# EAGLE library part CON-RJ45 (library FansElectronics-Wiznet)
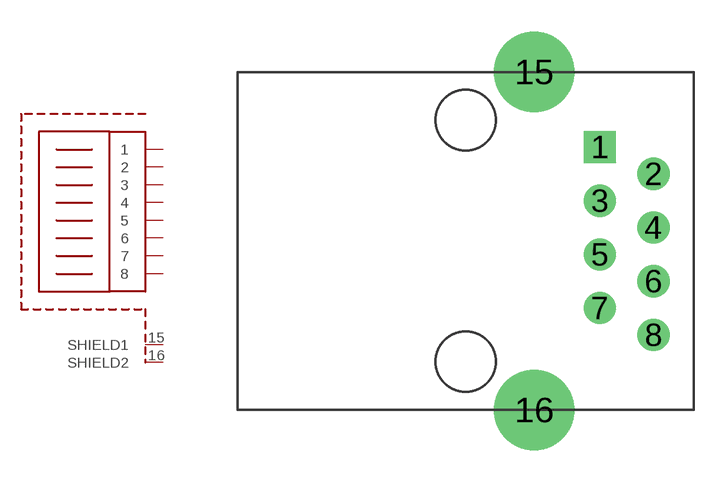
[diagram p4: symbol with the pads of CON-RJ45; footprint CON-RJ45]

Designator prefix X

## CON-RJ45  [CON-RJ45]
1  1  pas
2  2  pas
3  3  pas
4  4  pas
5  5  pas
6  6  pas
7  7  pas
8  8  pas
15  SHIELD1
16  SHIELD2

## Footprint CON-RJ45 (pad centres in mm)
drill 0.813 pad 1.524 square: 1 3.81,4.445
drill 0.813 pad 1.524: 2 6.35,3.175; 3 3.81,1.905; 4 6.35,0.635; 5 3.81,-0.635; 6 6.35,-1.905; 7 3.81,-3.175; 8 6.35,-4.445
drill 2.5 pad 3.81: 15 0.699,8.001; 16 0.699,-8.001